# Altium schematic symbol library M4QIDB-PRJ-01_1.SCHLIB: 30 symbols
Pins are listed as number, name and electrical type; pins without a type are passive.

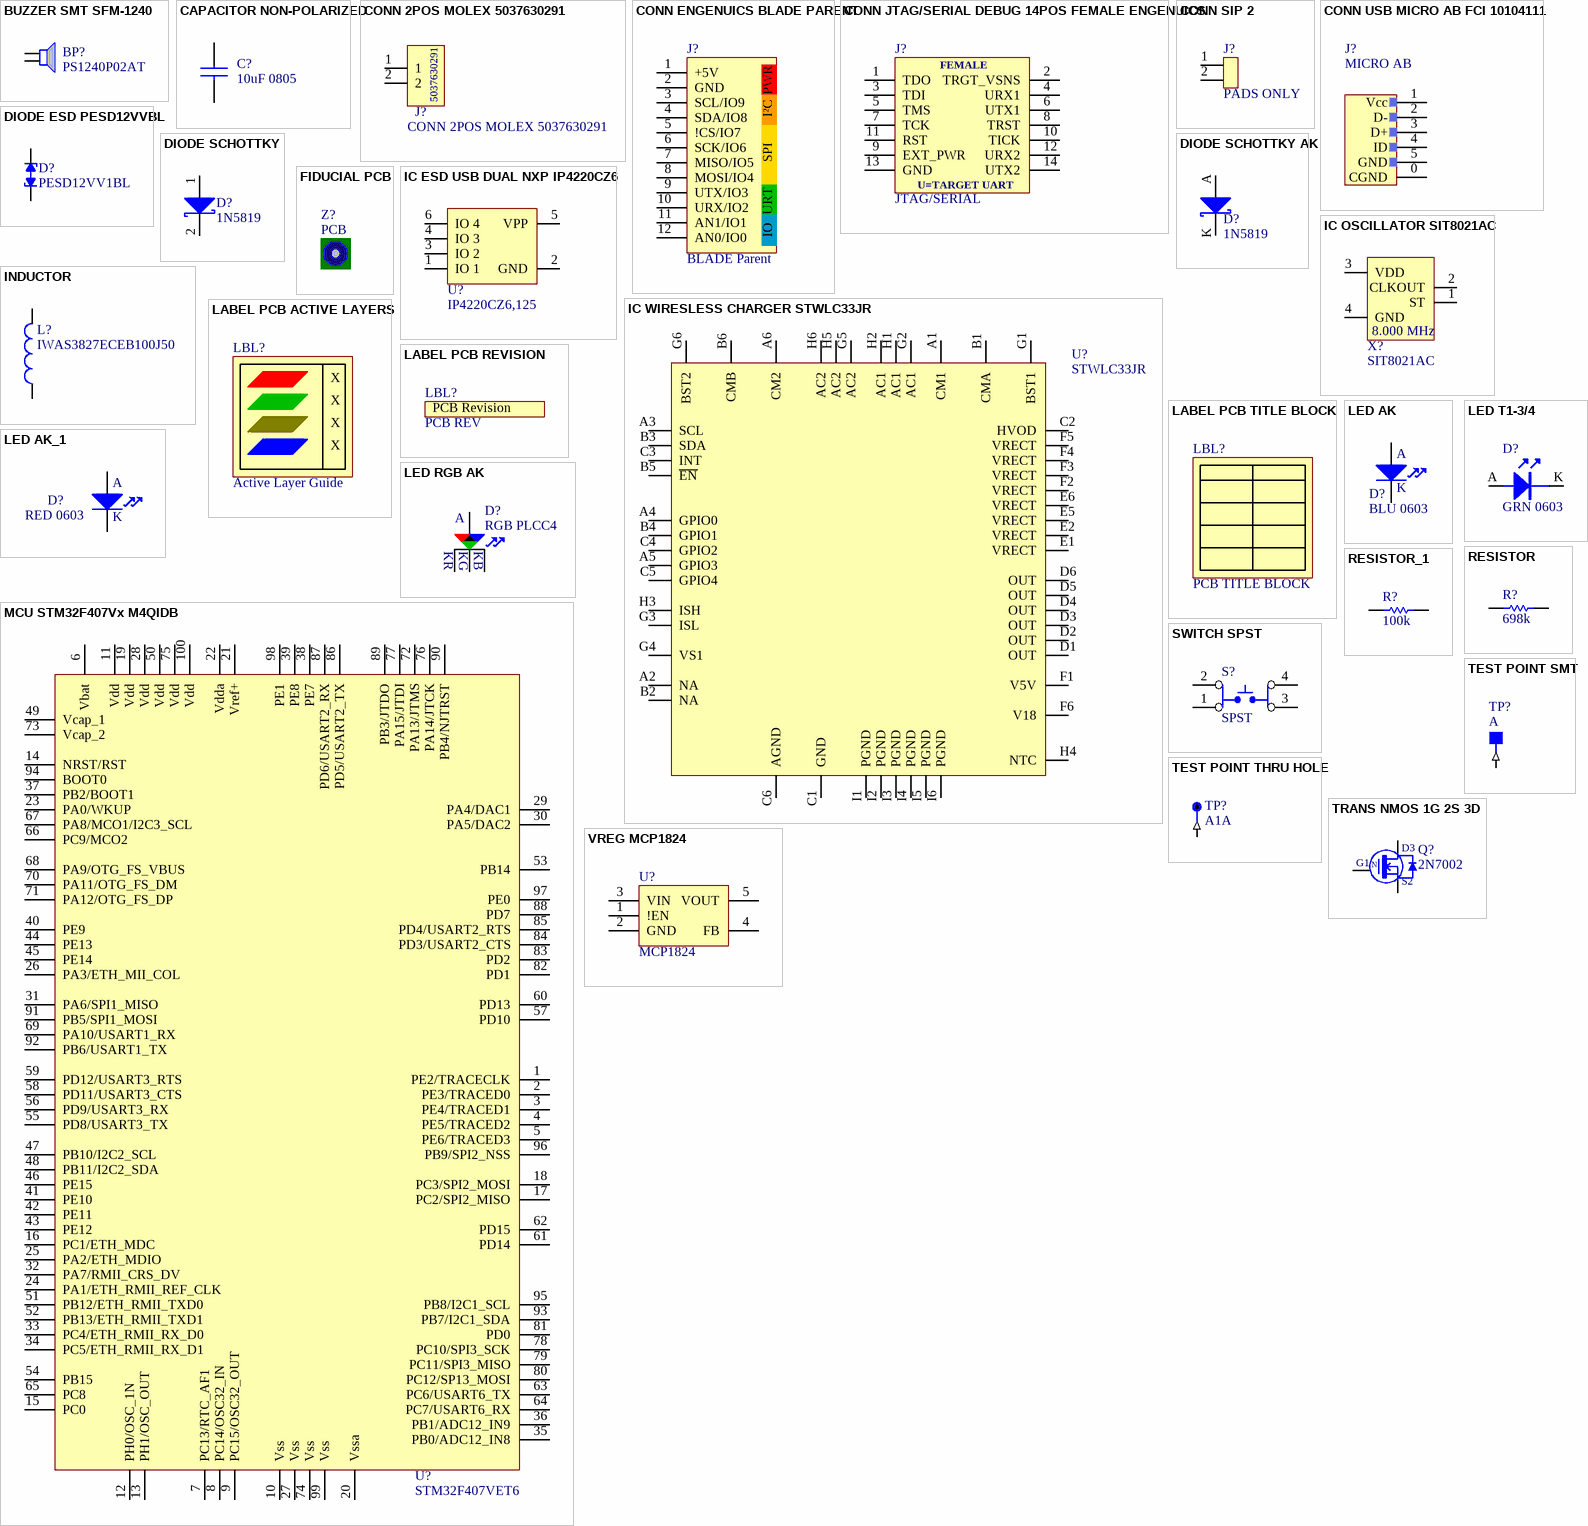
[diagram p0: symbols BUZZER SMT SFM-1240 to VREG MCP1824]

## BUZZER SMT SFM-1240
designator BP?, comment PS1240P02AT
2. Manufacturer: TDK; 5. Internal Part Number: 100002; 1. Description: BUZZER PIEZO 4KHZ 12.2MM PC MNT; 7. Modified By: JRL; 3. Manufacturer Part Number: PS1240P02AT; 4. Digi-Key Part Number: 445-2525-1-ND; 6. Last Modified: 2016-08-04
footprint BUZZER SFM-1240
footprint BUZZER DUAL SFM-1240 / TH
pins: 1, 2

## CAPACITOR NON-POLARIZED
designator C?, comment 10uF 0805
3. Manufacturer Part Number: CL21A106KOQNNNE; 2. Manufacturer: Samsung; 5. Internal Part Number: 100006; 1. Description: CAP CER 10uF 10% 16V X5R 0805; 7. Modified By: JRL; 4. Digi-Key Part Number: 1276-1096-1-ND; 6. Last Modified: 2016-08-04
footprint 0603
footprint 0402
footprint 0805
footprint 1206
footprint 1210
footprint 1812
footprint 2010 / 1206 / 0603
footprint 0805 CAP3D
pins: 1, 2

## CONN 2POS MOLEX 5037630291
designator J?
1. Description: CONN HEADER 1MM R/A 2CKT; 7. Modified By: JRL; 2. Manufacturer: MOLEX; 3. Manufacturer Part Number: 5037630291; 4. Digi-Key Part Number: WM10654TR-ND; 5. Internal Part Number: *; 6. Last Modified: 2015-12-08
footprint CONN 2POS MOLEX 5037630291
pins: 1, 2

## CONN ENGENUICS BLADE PARENT
designator J?, comment BLADE Parent
2. Manufacturer: Sullins; 3. Manufacturer Part Number: PPTC121LGBN-RC; 5. Internal Part Number: 100031; 1. Description: CONN TERMINAL 12POS 0.100" RIGHT ANGLE; 7. Modified By: JRL; 4. Digi-Key Part Number: S5448-ND; 6. Last Modified: 2011-04-17
footprint HDR1X12 ENGENUICS PARENT
pins: 1 +5V, 2 GND, 3 SCL/IO9, 4 SDA/IO8, 5 !CS/IO7, 6 SCK/IO6, 7 MISO/IO5, 8 MOSI/IO4, 9 UTX/IO3, 10 URX/IO2, 11 AN1/IO1, 12 AN0/IO0
text: PWR; I²C; SPI; URT; IO

## CONN JTAG/SERIAL DEBUG 14POS FEMALE ENGENUICS
designator J?, comment JTAG/SERIAL
2. Manufacturer: Samtec; 3. Manufacturer Part Number: FLE-107-01-G-DV; 1. Description: CONN RCPT .05" 14POS DUAL SMD; 7. Modified By: JRL; 4. Digi-Key Part Number: SAM1226-07-ND; 6. Last Modified: 2011-06-10
footprint CONN 14POS 7X2 SMT FEMALE
pins: 1 TDO, 2 TRGT_VSNS, 3 TDI, 4 URX1, 5 TMS, 6 UTX1, 7 TCK, 8 TRST, 9 EXT_PWR, 10 TICK, 11 RST, 12 URX2, 13 GND (power), 14 UTX2
text: FEMALE; U=TARGET UART

## CONN SIP 2
designator J?, comment PADS ONLY  (no BOM)
2. Manufacturer: *; 3. Manufacturer Part Number: *; 1. Description: PADS; 4. Digi-Key Part Number: *
footprint HDR1X2 (Footprint not found)
pins: 1, 2

## CONN USB MICRO AB FCI 10104111
designator J?, comment MICRO AB
2. Manufacturer: FCI; 3. Manufacturer Part Number: 10104111-0001LF; 5. Internal Part Number: 100182; 1. Description: CONN RCPT STD MICRO USB TYPE AB; 7. Modified By: JRL; 4. Digi-Key Part Number: 609-4053-1-ND; 6. Last Modified: 2012-09-03
footprint CONN USB MICRO AB FCI 10104111
footprint CONN USB MICRO B SMT LEGS FCI 10118193
pins: 0 CGND, 1 Vcc, 2 D-, 3 D+, 4 ID, 5 GND

## DIODE ESD PESD12VVBL
designator D?, comment PESD12VV1BL
2. Manufacturer: Nexperia USA Inc.; 3. Manufacturer Part Number: PESD12VV1BL,315; 1. Description: TVS DIODE 12V 38V DFN1006-2; 7. Modified By: JRL; 4. Digi-Key Part Number: 1727-1304-2-ND; 5. Internal Part Number: *; 6. Last Modified: 2019-01-20
footprint SOD882
pins: 1, 2

## DIODE SCHOTTKY
designator D?, comment 1N5819
2. Manufacturer: Diodes Inc.; 3. Manufacturer Part Number: 1N5819HW-7-F; 5. Internal Part Number: 100039; 1. Description: DIODE SCHOTTKY 1A 40V SOD123; 7. Modified By: JRL; 4. Digi-Key Part Number: 1N5819HW-FDITR-ND; 6. Last Modified: 2016-08-04
footprint 0603 AK
footprint SMA AK
footprint SMB AK
footprint SMC AK
footprint SOD123 AK
footprint SOD323 AK
footprint SOT23 AK
footprint SOD123
pins: 1, 2

## DIODE SCHOTTKY AK
designator D?, comment 1N5819
2. Manufacturer: Diodes Inc.; 3. Manufacturer Part Number: 1N5819HW-7-F; 5. Internal Part Number: 100039; 1. Description: DIODE SCHOTTKY 1A 40V SOD123; 7. Modified By: JRL; 4. Digi-Key Part Number: 1N5819HW-FDITR-ND; 6. Last Modified: 2016-07-31
footprint DO-220AA - AK
footprint SMA AK
footprint 0603 AK
footprint SOD123 AK
footprint SOD323 AK
footprint SMB AK
footprint SMC AK
pins: A, K

## FIDUCIAL PCB
designator Z?, comment PCB  (no BOM)
1. Description: FIDUCIAL SINGLE LAYER PADS ONLY; 2. Manufacturer: *; 3. Manufacturer Part Number: *; 4. Digi-Key Part Number: *
footprint FIDUCIAL PCB

## IC ESD USB DUAL NXP IP4220CZ6
designator U?, comment IP4220CZ6,125
2. Manufacturer: NXP; 5. Internal Part Number: 100225; 1. Description: IC USB DUAL ESD PROTECT 6TSOP; 7. Modified By: JRL; 3. Manufacturer Part Number: IP4220CZ6,125; 4. Digi-Key Part Number: 568-3529-6-ND; 6. Last Modified: 2013-05-14
footprint TSOP95P280X110-6N (TSOP, 6-Leads, Body 3.1x1.7mm (max), Pitch 0.95mm, IPC Medium Density)
pins: 1 IO 1, 2 GND, 3 IO 2, 4 IO 3, 5 VPP, 6 IO 4

## IC OSCILLATOR SIT8021AC
designator X?, comment SIT8021AC
2. Manufacturer: SiTIME; 3. Manufacturer Part Number: SiT8021AC-J4-XXS-8.000000D; 1. Description: MEMS OSC XO 32.7680KHZ LVCMOS; 7. Modified By: JRL; 4. Digi-Key Part Number: N/A; 5. Internal Part Number: *; 6. Last Modified: 2018-11-20
footprint CSP 1.55mm x 0.85mm
pins: 1 ST, 2 CLKOUT, 3 VDD, 4 GND
text: 8.000 MHz

## IC WIRESLESS CHARGER STWLC33JR
designator U?, comment STWLC33JR
2. Manufacturer: STM; 1. Description: IC WIRELESS POWER RECEIVER 52CSP; 7. Modified By: JRL; 3. Manufacturer Part Number: STWLC33JR; 4. Digi-Key Part Number: 497-17649-2-ND; 5. Internal Part Number: *; 6. Last Modified: 2019-01-20
footprint FLIP CHIP 3.97x2.67mm
pins: A1 CM1, A2 NA, A3 SCL, A4 GPIO0, A5 GPIO3, A6 CM2, B1 CMA, B2 NA, B3 SDA, B4 GPIO1, B5 ~{EN}, B6 CMB, C1 GND, C2 HVOD, C3 INT, C4 GPIO2, C5 GPIO4, C6 AGND, D1 OUT, D2 OUT, D3 OUT, D4 OUT, D5 OUT, D6 OUT, E1 VRECT, E2 VRECT, E5 VRECT, E6 VRECT, F1 V5V, F2 VRECT, F3 VRECT, F4 VRECT, F5 VRECT, F6 V18, G1 BST1, G2 AC1, G3 ISL, G4 VS1, G5 AC2, G6 BST2, H1 AC1, H2 AC1, H3 ISH, H4 NTC, H5 AC2, H6 AC2, I1 PGND, I2 PGND, I3 PGND, I4 PGND, I5 PGND, I6 PGND

## INDUCTOR
designator L?, comment IWAS3827ECEB100J50  (mechanical)
1. Description: INDUCTOR [TYPE] [VALUE] [TOLERANCE] [PACKAGE] [CURRENT] [DCR]; 2. Manufacturer: *; 3. Manufacturer Part Number: *; 4. Digi-Key Part Number: *; 5. Internal Part Number: *; 6. Last Modified: *; 7. Modified By: *
footprint 0603
footprint 0402
footprint 0805
footprint 1206
footprint 1210
footprint HDR1X2 NP (Non populated version)
pins: 1, 2

## LABEL PCB ACTIVE LAYERS
designator LBL?, comment Active Layer Guide  (no BOM)
1. Description: LABEL PCB ACTIVE LAYERS; 6. Last Modified: *; 7. Modified By: *
footprint LABEL PCB ACTIVE LAYERS VERTICAL
footprint LABEL PCB ACTIVE LAYERS HORIZONTAL
text: X

## LABEL PCB REVISION
designator LBL?, comment PCB REV  (no BOM)
1. Description: LABEL PCB ENGENUICS
footprint LABEL PCB REVISION
text: PCB Revision

## LABEL PCB TITLE BLOCK
designator LBL?, comment PCB TITLE BLOCK  (no BOM)
1. Description: LABEL PCB TITLE BLOCK
footprint LABEL PCB Title Block

## LED AK
designator D?, comment BLU 0603
2. Manufacturer: Kingbright; 3. Manufacturer Part Number: APT1608QBC/D; 5. Internal Part Number: 100107; 1. Description: LED 0603 BLUE 470NM WTR CLR SMD; 7. Modified By: JRL; 4. Digi-Key Part Number: 754-1434-1-ND; 6. Last Modified: 2019-01-20
footprint 0603 AK
pins: A, K

## LED AK_1
designator D?, comment RED 0603
2. Manufacturer: Kingbright Corp; 3. Manufacturer Part Number: APT1608SRCPRV; 1. Description: LED RED CLEAR 0603 SMD; 7. Modified By: JRL; 4. Digi-Key Part Number: 754-1122-2-ND; 6. Last Modified: 2012-12-18
footprint 0603
footprint 0603 AK
pins: A, K

## LED RGB AK
designator D?, comment RGB PLCC4
2. Manufacturer: Wenrun; 3. Manufacturer Part Number: WR-PA3528UEUGUB-S-MMM; 5. Internal Part Number: 100275; 1. Description: LED RGB PLCC4 TOP CLEAR; 7. Modified By: JRL; 6. Last Modified: 2016-08-04
footprint Model Name (Footprint not found)
footprint PLCC-4 RGB
pins: A, KB, KG, KR

## LED T1-3/4
designator D?, comment GRN 0603
LED; 2. Manufacturer: Kingbright Corp; 3. Manufacturer Part Number: APT1608SGC; 5. Internal Part Number: 100065; 1. Description: LED 0603 GREEN CLEAR SMD; 7. Modified By: JRL; 4. Digi-Key Part Number: 754-1121-2-ND; 6. Last Modified: 2016-08-04
footprint LED-T1-3/4A
footprint 0603 AK
pins: A A1, K K1

## MCU STM32F407Vx M4QIDB
designator U?, comment STM32F407VET6
2. Manufacturer: ST MICRO; 7. Modified By: JRL; 1. Description: MCU CORTEX-M3 STM32F407Vx LQFP100; 3. Manufacturer Part Number: STM32F407VET6; 4. Digi-Key Part Number: 497-12075-ND; 5. Internal Part Number: *; 6. Last Modified: 2016-06-27
footprint LQFP100
pins: 1 PE2/TRACECLK, 2 PE3/TRACED0, 3 PE4/TRACED1, 4 PE5/TRACED2, 5 PE6/TRACED3, 6 Vbat, 7 PC13/RTC_AF1, 8 PC14/OSC32_IN, 9 PC15/OSC32_OUT, 10 Vss, 11 Vdd, 12 PH0/OSC_1N, 13 PH1/OSC_OUT, 14 NRST/RST, 15 PC0, 16 PC1/ETH_MDC, 17 PC2/SPI2_MISO, 18 PC3/SPI2_MOSI, 19 Vdd, 20 Vssa, 21 Vref+, 22 Vdda, 23 PA0/WKUP, 24 PA1/ETH_RMII_REF_CLK, 25 PA2/ETH_MDIO, 26 PA3/ETH_MII_COL, 27 Vss, 28 Vdd, 29 PA4/DAC1, 30 PA5/DAC2, 31 PA6/SPI1_MISO, 32 PA7/RMII_CRS_DV, 33 PC4/ETH_RMII_RX_D0, 34 PC5/ETH_RMII_RX_D1, 35 PB0/ADC12_IN8, 36 PB1/ADC12_IN9, 37 PB2/BOOT1, 38 PE7, 39 PE8, 40 PE9, 41 PE10, 42 PE11, 43 PE12, 44 PE13, 45 PE14, 46 PE15, 47 PB10/I2C2_SCL, 48 PB11/I2C2_SDA, 49 Vcap_1, 50 Vdd, 51 PB12/ETH_RMII_TXD0, 52 PB13/ETH_RMII_TXD1, 53 PB14, 54 PB15, 55 PD8/USART3_TX, 56 PD9/USART3_RX, 57 PD10, 58 PD11/USART3_CTS, 59 PD12/USART3_RTS, 60 PD13, 61 PD14, 62 PD15, 63 PC6/USART6_TX, 64 PC7/USART6_RX, 65 PC8, 66 PC9/MCO2, 67 PA8/MCO1/I2C3_SCL, 68 PA9/OTG_FS_VBUS, 69 PA10/USART1_RX, 70 PA11/OTG_FS_DM, 71 PA12/OTG_FS_DP, 72 PA13/JTMS, 73 Vcap_2, 74 Vss, 75 Vdd, 76 PA14/JTCK, 77 PA15/JTDI, 78 PC10/SPI3_SCK, 79 PC11/SPI3_MISO, 80 PC12/SP13_MOSI, 81 PD0, 82 PD1, 83 PD2, 84 PD3/USART2_CTS, 85 PD4/USART2_RTS, 86 PD5/USART2_TX, 87 PD6/USART2_RX, 88 PD7, 89 PB3/JTDO, 90 PB4/NJTRST, 91 PB5/SPI1_MOSI, 92 PB6/USART1_TX, 93 PB7/I2C1_SDA, 94 BOOT0, 95 PB8/I2C1_SCL, 96 PB9/SPI2_NSS, 97 PE0, 98 PE1, 99 Vss, 100 Vdd

## RESISTOR
designator R?, comment 698k
2. Manufacturer: Yageo; 3. Manufacturer Part Number: RC0603FR-07698KL; 1. Description: RES 698K OHM 1/10W 1% 0603 SMD; 7. Modified By: JRL; 4. Digi-Key Part Number: 311-698KHRCT-ND; 6. Last Modified: 2011-08-14
footprint 0603
footprint 0402
footprint 0805
footprint 1206
footprint 1210
footprint 1812
footprint 1812
footprint 2010
footprint 2010 / 1206 / 0603
pins: 1, 2

## RESISTOR_1
designator R?, comment 100k
1. Description: RES [VALUE] [POWER] [TOLERANCE] [PACKAGE] [CONSTRUCTION]; 5. Internal Part Number: *; 4. Digi-Key Part Number: *; 2. Manufacturer: *; 3. Manufacturer Part Number: *; 6. Last Modified: *; 7. Modified By: *
footprint 0603
footprint 0402
footprint 0805
footprint 1206
footprint 1210
footprint 1812
footprint 1812
footprint 2010
footprint 2010 / 1206 / 0603
footprint 2512
pins: 1, 2

## SWITCH SPST
designator S?, comment SPST
SPST TACT SWITCH; 2. Manufacturer: TE Connectivity; 3. Manufacturer Part Number: FSM4JSMATR; 1. Description: SWITCH TACT 260GF H=5.0MM SMT; 7. Modified By: JRL; 4. Digi-key Part Number: 450-1759-2-ND; 6. Last Modified: 2012-12-16
footprint SWITCH TACT SMT
footprint SWITCH TACT SMT TL3301
pins: 1 X1, 2 X2, 3 Y1, 4 Y2

## TEST POINT SMT
designator TP?, comment A  (no BOM)
1. Description: Test pad; 7. Modified By: JRL; 2. Manufacturer: N/A; 3. Manufacturer Part Number: N/A; 4. Digi-Key Part Number: N/A; 6. Last Modified: 2012-12-16
footprint TEST POINT SMT
pins: 1 (in)

## TEST POINT THRU HOLE
designator TP?, comment A1A  (no BOM)
1. Description: TEST PAD THROUGH-HOLE; 7. Modified By: JRL; 2. Manufacturer: N/A; 3. Manufacturer Part Number: N/A; 4. Digi-Key Part Number: N/A; 5. Internal Part Number: N/A; 6. Last Modified: June 12, 2008
footprint TEST POINT THRU HOLE
pins: 1 (in)

## TRANS NMOS 1G 2S 3D
designator Q?, comment 2N7002
2. Manufacturer: ON Semiconductor; 3. Manufacturer Part Number: 2N7002WT1G; 1. Description: MOSFET N-CH 60V 310MA SOT323; 7. Modified By: JRL; 4. Digi-Key Part Number: 2N7002WT1GOSTR-ND; 5. Internal Part Number: *; 6. Last Modified: 2016-09-22
footprint SC-70-3
footprint SOT23
pins: 1 G, 2 S, 3 D
text: D3; G1; N; S2

## VREG MCP1824
designator U?, comment MCP1824
2. Manufacturer: Microchip; 3. Manufacturer Part Number: MCP1824T-ADJE/OT; 1. Description: IC LDO REG 300MA ADJ-V SOT23-5; 7. Modified By: JRL; 4. Digi-Key Part Number: MCP1824T-ADJE/OTCT-ND; 6. Last Modified: 2011-08-14
footprint SOT23-5
pins: 1 !EN, 2 GND, 3 VIN, 4 FB, 5 VOUT